# Altium schematic symbol library Schlib4.SchLib: 1 symbol
Pins are listed as number, name and electrical type; pins without a type are passive.

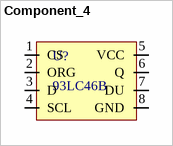
[diagram p0: symbol Component_4]

## Component_4
designator U?, comment 93LC46B
footprint TSOP65P640X120-8N (TSOP, 8-Leads, Body 3,1x4,5mm (max), Pitch 0,65mm, IPC Medium Density)
pins: 1 CS, 2 ORG, 3 D, 4 SCL, 5 VCC, 6 Q, 7 DU, 8 GND